# Altium footprint library Red-LED - 01.02.26 - 14.PcbLib: 1 footprints
Each footprint in its own frame and in the unit in brackets; x right, y up, seen from the top. Pads: shape width x height; smd on the part's side, far side on the other; paste and mask are expansions set on the pad; w line width, h text height; cw(c..) or ccw(c..) is an arc to the next point about the centre after c.
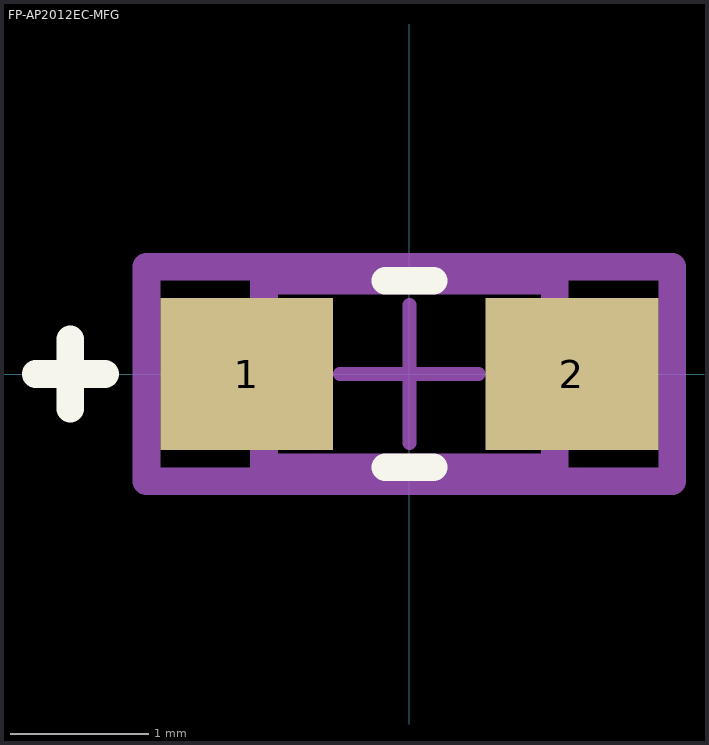
[diagram p0: the footprint, top view; thin cyan lines are the x and y axes]

## FP-AP2012EC-MFG [mm]
pads (2):
  rect 1.25x1.1 smd paste+0 mask+0: 1(-1.175,0) 2(1.175,0)
Top Overlay:
  lines w0.2: -2.7,0 -2.2,0 ; -2.45,-0.25 -2.45,0.25 ; -0.175,-0.675 0.175,-0.675 ; -0.175,0.675 0.175,0.675
Top Assembly:
  lines w0.2: -1.9,-0.775 -1.9,0.775 1.9,0.775 1.9,-0.775 -1.9,-0.775
  text ".Designator" at 0,-0.001 h1
Top 3D Body:
  lines w0.2: -1.05,-0.675 -1.05,0.675 1.05,0.675 1.05,-0.675 -1.05,-0.675
Top Courtyard:
  lines w0.2: -1.9,-0.775 -1.9,0.775 1.9,0.775 1.9,-0.775 -1.9,-0.775
Top Component Center:
  lines w0.1: -0.5,0 0.5,0 ; 0,-0.5 0,0.5
3D body "Diode_Kingbright_AP2012EC_eec.STEP": height 0.25, standoff 0, extent -1.9,-0.775 1.9,0.775